# EAGLE library part ADS131M08IPBS (library ADS131)
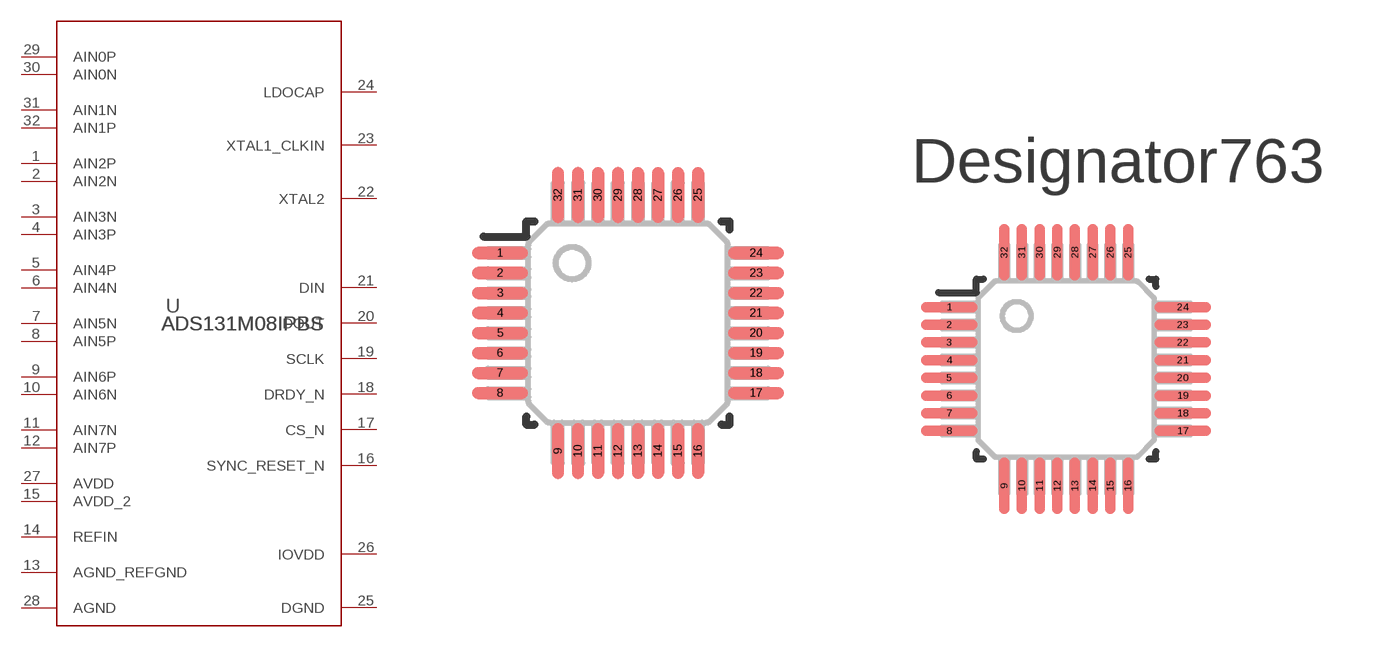
[diagram p0: symbol with the pads of PBS0032A_N; footprints PBS0032A_N, PBS0032A_M]

Designator prefix U

## ADS131M08IPBS (MANUFACTURER: Texas Instruments; PARTNUMBER: ADS131M08IPBSR; REFDES: RefDes; TYPE: TYPE; VALUE: Value)  [PBS0032A_N]
1  AIN2P  in
2  AIN2N  in
3  AIN3N  in
4  AIN3P  in
5  AIN4P  in
6  AIN4N  in
7  AIN5N  in
8  AIN5P  in
9  AIN6P  in
10  AIN6N  in
11  AIN7N  in
12  AIN7P  in
13  AGND_REFGND  pwr
14  REFIN  in
15  AVDD_2  pwr
16  SYNC_RESET_N  in
17  CS_N  in
18  DRDY_N  out
19  SCLK  in
20  DOUT  out
21  DIN  in
22  XTAL2  in
23  XTAL1_CLKIN  in
24  LDOCAP  pas
25  DGND  pwr
26  IOVDD  pwr
27  AVDD  pwr
28  AGND  pwr
29  AIN0P  in
30  AIN0N  in
31  AIN1N  in
32  AIN1P  in

## ADS131M08IPBSPBS0032A_M (MANUFACTURER: Texas Instruments; PARTNUMBER: ADS131M08IPBSR; REFDES: RefDes; TYPE: TYPE; VALUE: Value)  [PBS0032A_M]
Pads as for PBS0032A_N

## ADS131M08IPBSPBS0032A_L (MANUFACTURER: Texas Instruments; PARTNUMBER: ADS131M08IPBSR; REFDES: RefDes; TYPE: TYPE; VALUE: Value)  [PBS0032A_L]
Pads as for PBS0032A_N

## Footprint PBS0032A_N (pad centres in mm)
smd 1.4 x 0.3: 1 -3.2,1.75; 2 -3.2,1.25; 3 -3.2,0.75; 4 -3.2,0.25; 5 -3.2,-0.25; 6 -3.2,-0.75; 7 -3.2,-1.25; 8 -3.2,-1.75; 17 3.2,-1.75; 18 3.2,-1.25; 19 3.2,-0.75; 20 3.2,-0.25; 21 3.2,0.25; 22 3.2,0.75; 23 3.2,1.25; 24 3.2,1.75
smd 0.3 x 1.4: 9 -1.75,-3.2; 10 -1.25,-3.2; 11 -0.75,-3.2; 12 -0.25,-3.2; 13 0.25,-3.2; 14 0.75,-3.2; 15 1.25,-3.2; 16 1.75,-3.2; 25 1.75,3.2; 26 1.25,3.2; 27 0.75,3.2; 28 0.25,3.2; 29 -0.25,3.2; 30 -0.75,3.2; 31 -1.25,3.2; 32 -1.75,3.2

## Footprint PBS0032A_M (pad centres in mm)
smd 1.6 x 0.3: 1 -3.3,1.75; 2 -3.3,1.25; 3 -3.3,0.75; 4 -3.3,0.25; 5 -3.3,-0.25; 6 -3.3,-0.75; 7 -3.3,-1.25; 8 -3.3,-1.75; 17 3.3,-1.75; 18 3.3,-1.25; 19 3.3,-0.75; 20 3.3,-0.25; 21 3.3,0.25; 22 3.3,0.75; 23 3.3,1.25; 24 3.3,1.75
smd 0.3 x 1.6: 9 -1.75,-3.3; 10 -1.25,-3.3; 11 -0.75,-3.3; 12 -0.25,-3.3; 13 0.25,-3.3; 14 0.75,-3.3; 15 1.25,-3.3; 16 1.75,-3.3; 25 1.75,3.3; 26 1.25,3.3; 27 0.75,3.3; 28 0.25,3.3; 29 -0.25,3.3; 30 -0.75,3.3; 31 -1.25,3.3; 32 -1.75,3.3

## Footprint PBS0032A_L (pad centres in mm)
smd 1.2 x 0.3: 1 -3.1,1.75; 2 -3.1,1.25; 3 -3.1,0.75; 4 -3.1,0.25; 5 -3.1,-0.25; 6 -3.1,-0.75; 7 -3.1,-1.25; 8 -3.1,-1.75; 17 3.1,-1.75; 18 3.1,-1.25; 19 3.1,-0.75; 20 3.1,-0.25; 21 3.1,0.25; 22 3.1,0.75; 23 3.1,1.25; 24 3.1,1.75
smd 0.3 x 1.2: 9 -1.75,-3.1; 10 -1.25,-3.1; 11 -0.75,-3.1; 12 -0.25,-3.1; 13 0.25,-3.1; 14 0.75,-3.1; 15 1.25,-3.1; 16 1.75,-3.1; 25 1.75,3.1; 26 1.25,3.1; 27 0.75,3.1; 28 0.25,3.1; 29 -0.25,3.1; 30 -0.75,3.1; 31 -1.25,3.1; 32 -1.75,3.1